# Altium schematic symbol library SLG55021-200010V.Schlib: 1 symbol
Pins are listed as number, name and electrical type; pins without a type are passive.

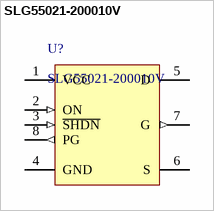
[diagram p0: symbol SLG55021-200010V]

## SLG55021-200010V
designator U?
Gate Drivers Green FET High Voltage, Gate Driver
pins: 1 VCC (power), 2 ON (in), 3 ~{SHDN} (in), 4 GND (power), 5 D (power), 6 S (power), 7 G (out), 8 PG (out)